# Altium footprint library WE-TPB HV.PcbLib: 18 footprints (part 1 of 2)
Each footprint in its own frame and in the unit in brackets; x right, y up, seen from the top. Pads: shape width x height; smd on the part's side, far side on the other; paste and mask are expansions set on the pad; w line width, h text height; cw(c..) or ccw(c..) is an arc to the next point about the centre after c.
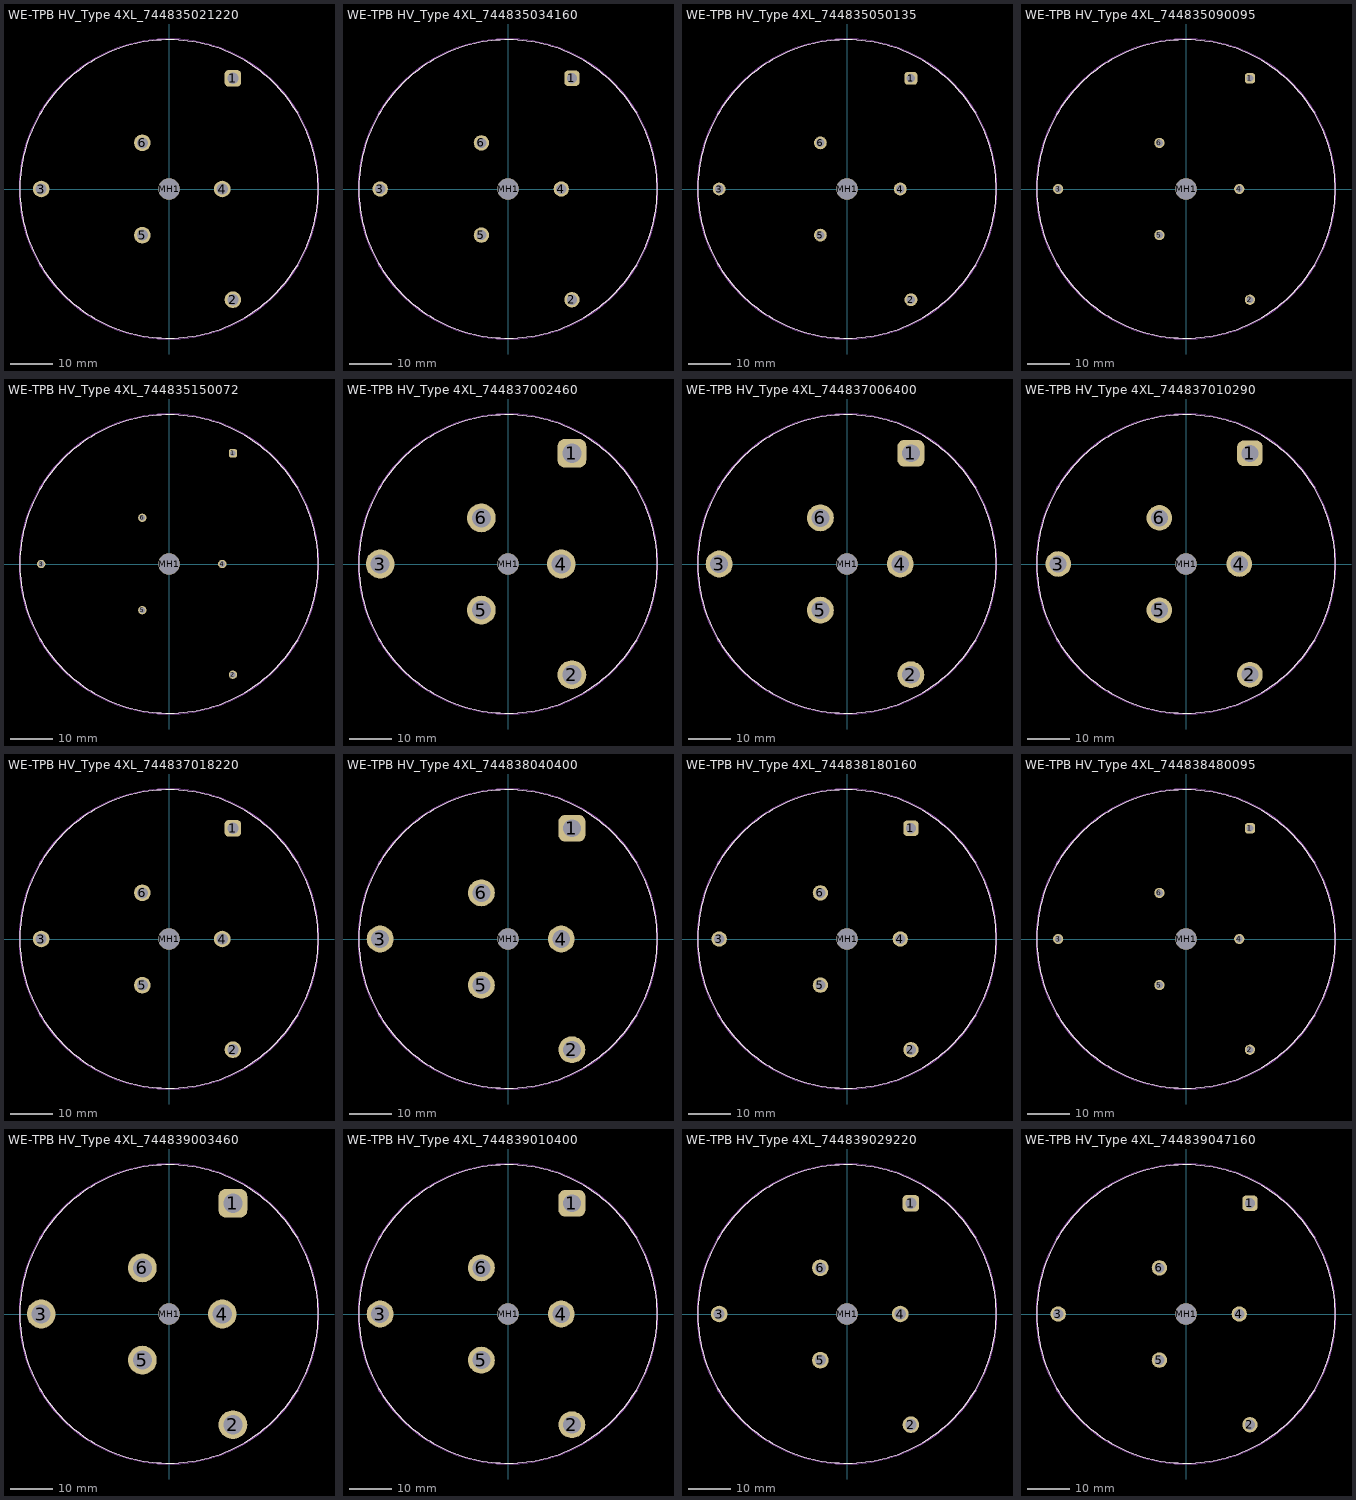
[diagram p0: the footprints below, top view; thin cyan lines are the x and y axes]

## WE-TPB HV_Type 4XL_744835021220 [mm] "Three-Phase Common Mode Power Line Choke, 6-Leads, body diameter 70mm"
height 39
pads (7):
  rrect50% 3.9x3.9 hole 2.6: 1(15,25.981)
  round 3.9 hole 2.6: 2(15,-25.981) 3(-30,0) 4(12.5,0) 5(-6.25,-10.825) 6(-6.25,10.825)
  round 5 hole 5 unplated: MH1(0,0)
Top Overlay:
  circle w0.2: c0,0 r35
Top Designator:
  text ".Designator" at -7.498,-0.5 h1.5
Top Component Outline:
  circle w0.1: c0,0 r35
Top 3D Body:
  circle w0.1: c0,0 r35
Top Courtyard:
  circle w0.05: c0,0 r35.2
  lines w0.05: -0.5,0 0.5,0 ; 0,-0.5 0,0.5
3D body "744835021220.stp": height 37.6, standoff -4.9, extent -34,-31.568 31.515,30.927

## WE-TPB HV_Type 4XL_744835034160 [mm] "Three-Phase Common Mode Power Line Choke, 6-Leads, body diameter 70mm"
height 39
pads (7):
  rrect50% 3.6x3.6 hole 2.4: 1(15,25.981)
  round 3.6 hole 2.4: 2(15,-25.981) 3(-30,0) 4(12.5,0) 5(-6.25,-10.825) 6(-6.25,10.825)
  round 5 hole 5 unplated: MH1(0,0)
Top Overlay:
  circle w0.2: c0,0 r35
Top Designator:
  text ".Designator" at -7.498,-0.5 h1.5
Top Component Outline:
  circle w0.1: c0,0 r35
Top 3D Body:
  circle w0.1: c0,0 r35
Top Courtyard:
  circle w0.05: c0,0 r35.2
  lines w0.05: -0.5,0 0.5,0 ; 0,-0.5 0,0.5
3D body "744835034160.stp": height 37.6, standoff -4.9, extent -34,-31.295 31.353,30.7

## WE-TPB HV_Type 4XL_744835050135 [mm] "Three-Phase Common Mode Power Line Choke, 6-Leads, body diameter 70mm"
height 39
pads (7):
  rrect50% 3x3 hole 2: 1(15,25.981)
  round 3 hole 2: 2(15,-25.981) 3(-30,0) 4(12.5,0) 5(-6.25,-10.825) 6(-6.25,10.825)
  round 5 hole 5 unplated: MH1(0,0)
Top Overlay:
  circle w0.2: c0,0 r35
Top Designator:
  text ".Designator" at -7.498,-0.5 h1.5
Top Component Outline:
  circle w0.1: c0,0 r35
Top 3D Body:
  circle w0.1: c0,0 r35
Top Courtyard:
  circle w0.05: c0,0 r35.2
  lines w0.05: -0.5,0 0.5,0 ; 0,-0.5 0,0.5
3D body "744835050135.stp": height 37.6, standoff -5, extent -34,-31.047 31.063,30.7

## WE-TPB HV_Type 4XL_744835090095 [mm] "Three-Phase Common Mode Power Line Choke, 6-Leads, body diameter 70mm"
height 39
pads (7):
  rrect50% 2.4x2.4 hole 1.6: 1(15,25.981)
  round 2.4 hole 1.6: 2(15,-25.981) 3(-30,0) 4(12.5,0) 5(-6.25,-10.825) 6(-6.25,10.825)
  round 5 hole 5 unplated: MH1(0,0)
Top Overlay:
  circle w0.2: c0,0 r35
Top Designator:
  text ".Designator" at -7.498,-0.5 h1.5
Top Component Outline:
  circle w0.1: c0,0 r35
Top 3D Body:
  circle w0.1: c0,0 r35
Top Courtyard:
  circle w0.05: c0,0 r35.2
  lines w0.05: -0.5,0 0.5,0 ; 0,-0.5 0,0.5
3D body "744835090095.stp": height 37.6, standoff -4.9, extent -34,-30.763 30.742,30.7

## WE-TPB HV_Type 4XL_744835150072 [mm] "Three-Phase Common Mode Power Line Choke, 6-Leads, body diameter 70mm"
height 39
pads (7):
  rrect50% 1.95x1.95 hole 1.3: 1(15,25.981)
  round 1.95 hole 1.3: 2(15,-25.981) 3(-30,0) 4(12.5,0) 5(-6.25,-10.825) 6(-6.25,10.825)
  round 5 hole 5 unplated: MH1(0,0)
Top Overlay:
  circle w0.2: c0,0 r35
Top Designator:
  text ".Designator" at -7.498,-0.5 h1.5
Top Component Outline:
  circle w0.1: c0,0 r35
Top 3D Body:
  circle w0.1: c0,0 r35
Top Courtyard:
  circle w0.05: c0,0 r35.2
  lines w0.05: -0.5,0 0.5,0 ; 0,-0.5 0,0.5
3D body "744835150072.stp": height 37.6, standoff -4.9, extent -34,-30.556 30.565,30.7

## WE-TPB HV_Type 4XL_744837002460 [mm] "Three-Phase Common Mode Power Line Choke, 6-Leads, body diameter 70mm"
height 39
pads (7):
  rrect50% 6.75x6.75 hole 4.5: 1(15,25.981)
  round 6.75 hole 4.5: 2(15,-25.981) 3(-30,0) 4(12.5,0) 5(-6.25,-10.825) 6(-6.25,10.825)
  round 5 hole 5 unplated: MH1(0,0)
Top Overlay:
  circle w0.2: c0,0 r35
Top Designator:
  text ".Designator" at -7.498,-0.5 h1.5
Top Component Outline:
  circle w0.1: c0,0 r35
Top 3D Body:
  circle w0.1: c0,0 r35
Top Courtyard:
  circle w0.05: c0,0 r35.2
  lines w0.05: -0.5,0 0.5,0 ; 0,-0.5 0,0.5
3D body "744837002460.stp": height 37.6, standoff -4.9, extent -34,-30.926 31.157,30.7

## WE-TPB HV_Type 4XL_744837006400 [mm] "Three-Phase Common Mode Power Line Choke, 6-Leads, body diameter 70mm"
height 39
pads (7):
  rrect50% 6.3x6.3 hole 4.2: 1(15,25.981)
  round 6.3 hole 4.2: 2(15,-25.981) 3(-30,0) 4(12.5,0) 5(-6.25,-10.825) 6(-6.25,10.825)
  round 5 hole 5 unplated: MH1(0,0)
Top Overlay:
  circle w0.2: c0,0 r35
Top Designator:
  text ".Designator" at -7.498,-0.5 h1.5
Top Component Outline:
  circle w0.1: c0,0 r35
Top 3D Body:
  circle w0.1: c0,0 r35
Top Courtyard:
  circle w0.05: c0,0 r35.2
  lines w0.05: -0.5,0 0.5,0 ; 0,-0.5 0,0.5
3D body "744837006400.stp": height 37.6, standoff -4.9, extent -34,-30.969 31.042,30.7

## WE-TPB HV_Type 4XL_744837010290 [mm] "Three-Phase Common Mode Power Line Choke, 6-Leads, body diameter 70mm"
height 39
pads (7):
  rrect50% 6x6 hole 4: 1(15,25.981)
  round 6 hole 4: 2(15,-25.981) 3(-30,0) 4(12.5,0) 5(-6.25,-10.825) 6(-6.25,10.825)
  round 5 hole 5 unplated: MH1(0,0)
Top Overlay:
  circle w0.2: c0,0 r35
Top Designator:
  text ".Designator" at -7.498,-0.5 h1.5
Top Component Outline:
  circle w0.1: c0,0 r35
Top 3D Body:
  circle w0.1: c0,0 r35
Top Courtyard:
  circle w0.05: c0,0 r35.2
  lines w0.05: -0.5,0 0.5,0 ; 0,-0.5 0,0.5
3D body "744837010290.stp": height 37.6, standoff -4.9, extent -34,-30.56 30.937,30.7

## WE-TPB HV_Type 4XL_744837018220 [mm] "Three-Phase Common Mode Power Line Choke, 6-Leads, body diameter 70mm"
height 39
pads (7):
  rrect50% 3.9x3.9 hole 2.6: 1(15,25.981)
  round 3.9 hole 2.6: 2(15,-25.981) 3(-30,0) 4(12.5,0) 5(-6.25,-10.825) 6(-6.25,10.825)
  round 5 hole 5 unplated: MH1(0,0)
Top Overlay:
  circle w0.2: c0,0 r35
Top Designator:
  text ".Designator" at -7.498,-0.5 h1.5
Top Component Outline:
  circle w0.1: c0,0 r35
Top 3D Body:
  circle w0.1: c0,0 r35
Top Courtyard:
  circle w0.05: c0,0 r35.2
  lines w0.05: -0.5,0 0.5,0 ; 0,-0.5 0,0.5
3D body "744837018220.stp": height 37.6, standoff -4.9, extent -34,-31.568 31.515,30.7

## WE-TPB HV_Type 4XL_744838040400 [mm] "Three-Phase Common Mode Power Line Choke, 6-Leads, body diameter 70mm"
height 39
pads (7):
  rrect50% 6.3x6.3 hole 4.2: 1(15,25.981)
  round 6.3 hole 4.2: 2(15,-25.981) 3(-30,0) 4(12.5,0) 5(-6.25,-10.825) 6(-6.25,10.825)
  round 5 hole 5 unplated: MH1(0,0)
Top Overlay:
  circle w0.2: c0,0 r35
Top Designator:
  text ".Designator" at -7.498,-0.5 h1.5
Top Component Outline:
  circle w0.1: c0,0 r35
Top 3D Body:
  circle w0.1: c0,0 r35
Top Courtyard:
  circle w0.05: c0,0 r35.2
  lines w0.05: -0.5,0 0.5,0 ; 0,-0.5 0,0.5
3D body "744838040400.stp": height 37.6, standoff -4.9, extent -34,-30.969 31.042,30.7

## WE-TPB HV_Type 4XL_744838180160 [mm] "Three-Phase Common Mode Power Line Choke, 6-Leads, body diameter 70mm"
height 39
pads (7):
  rrect50% 3.6x3.6 hole 2.4: 1(15,25.981)
  round 3.6 hole 2.4: 2(15,-25.981) 3(-30,0) 4(12.5,0) 5(-6.25,-10.825) 6(-6.25,10.825)
  round 5 hole 5 unplated: MH1(0,0)
Top Overlay:
  circle w0.2: c0,0 r35
Top Designator:
  text ".Designator" at -7.498,-0.5 h1.5
Top Component Outline:
  circle w0.1: c0,0 r35
Top 3D Body:
  circle w0.1: c0,0 r35
Top Courtyard:
  circle w0.05: c0,0 r35.2
  lines w0.05: -0.5,0 0.5,0 ; 0,-0.5 0,0.5
3D body "744838180160.stp": height 37.6, standoff -4.9, extent -34,-31.295 31.353,30.7

## WE-TPB HV_Type 4XL_744838480095 [mm] "Three-Phase Common Mode Power Line Choke, 6-Leads, body diameter 70mm"
height 39
pads (7):
  rrect50% 2.4x2.4 hole 1.6: 1(15,25.981)
  round 2.4 hole 1.6: 2(15,-25.981) 3(-30,0) 4(12.5,0) 5(-6.25,-10.825) 6(-6.25,10.825)
  round 5 hole 5 unplated: MH1(0,0)
Top Overlay:
  circle w0.2: c0,0 r35
Top Designator:
  text ".Designator" at -7.498,-0.5 h1.5
Top Component Outline:
  circle w0.1: c0,0 r35
Top 3D Body:
  circle w0.1: c0,0 r35
Top Courtyard:
  circle w0.05: c0,0 r35.2
  lines w0.05: -0.5,0 0.5,0 ; 0,-0.5 0,0.5
3D body "744838480095.stp": height 37.6, standoff -4.9, extent -34,-30.763 30.742,30.7

## WE-TPB HV_Type 4XL_744839003460 [mm] "Three-Phase Common Mode Power Line Choke, 6-Leads, body diameter 70mm"
height 39
pads (7):
  rrect50% 6.75x6.75 hole 4.5: 1(15,25.981)
  round 6.75 hole 4.5: 2(15,-25.981) 3(-30,0) 4(12.5,0) 5(-6.25,-10.825) 6(-6.25,10.825)
  round 5 hole 5 unplated: MH1(0,0)
Top Overlay:
  circle w0.2: c0,0 r35
Top Designator:
  text ".Designator" at -7.498,-0.5 h1.5
Top Component Outline:
  circle w0.1: c0,0 r35
Top 3D Body:
  circle w0.1: c0,0 r35
Top Courtyard:
  circle w0.05: c0,0 r35.2
  lines w0.05: -0.5,0 0.5,0 ; 0,-0.5 0,0.5
3D body "744839003460.stp": height 37.6, standoff -4.9, extent -34,-31.026 31.157,30.7

## WE-TPB HV_Type 4XL_744839010400 [mm] "Three-Phase Common Mode Power Line Choke, 6-Leads, body diameter 70mm"
height 39
pads (7):
  rrect50% 6.3x6.3 hole 4.2: 1(15,25.981)
  round 6.3 hole 4.2: 2(15,-25.981) 3(-30,0) 4(12.5,0) 5(-6.25,-10.825) 6(-6.25,10.825)
  round 5 hole 5 unplated: MH1(0,0)
Top Overlay:
  circle w0.2: c0,0 r35
Top Designator:
  text ".Designator" at -7.498,-0.5 h1.5
Top Component Outline:
  circle w0.1: c0,0 r35
Top 3D Body:
  circle w0.1: c0,0 r35
Top Courtyard:
  circle w0.05: c0,0 r35.2
  lines w0.05: -0.5,0 0.5,0 ; 0,-0.5 0,0.5
3D body "744839010400.stp": height 37.6, standoff -4.9, extent -34,-30.969 31.042,30.7

## WE-TPB HV_Type 4XL_744839029220 [mm] "Three-Phase Common Mode Power Line Choke, 6-Leads, body diameter 70mm"
height 39
pads (7):
  rrect50% 3.9x3.9 hole 2.6: 1(15,25.981)
  round 3.9 hole 2.6: 2(15,-25.981) 3(-30,0) 4(12.5,0) 5(-6.25,-10.825) 6(-6.25,10.825)
  round 5 hole 5 unplated: MH1(0,0)
Top Overlay:
  circle w0.2: c0,0 r35
Top Designator:
  text ".Designator" at -7.498,-0.5 h1.5
Top Component Outline:
  circle w0.1: c0,0 r35
Top 3D Body:
  circle w0.1: c0,0 r35
Top Courtyard:
  circle w0.05: c0,0 r35.2
  lines w0.05: -0.5,0 0.5,0 ; 0,-0.5 0,0.5
3D body "744839029220.stp": height 37.6, standoff -4.9, extent -34,-31.568 31.515,30.7

## WE-TPB HV_Type 4XL_744839047160 [mm] "Three-Phase Common Mode Power Line Choke, 6-Leads, body diameter 70mm"
height 39
pads (7):
  rrect50% 3.6x3.6 hole 2.4: 1(15,25.981)
  round 3.6 hole 2.4: 2(15,-25.981) 3(-30,0) 4(12.5,0) 5(-6.25,-10.825) 6(-6.25,10.825)
  round 5 hole 5 unplated: MH1(0,0)
Top Overlay:
  circle w0.2: c0,0 r35
Top Designator:
  text ".Designator" at -7.498,-0.5 h1.5
Top Component Outline:
  circle w0.1: c0,0 r35
Top 3D Body:
  circle w0.1: c0,0 r35
Top Courtyard:
  circle w0.05: c0,0 r35.2
  lines w0.05: -0.5,0 0.5,0 ; 0,-0.5 0,0.5
3D body "744839047160.stp": height 37.6, standoff -4.9, extent -34,-31.295 31.353,30.7